# Altium footprint library TO_THD.PCBLIB: 49 footprints (part 4 of 4)
Each footprint in its own frame and in the unit in brackets; x right, y up, seen from the top. Pads: shape width x height; smd on the part's side, far side on the other; paste and mask are expansions set on the pad; w line width, h text height; cw(c..) or ccw(c..) is an arc to the next point about the centre after c.
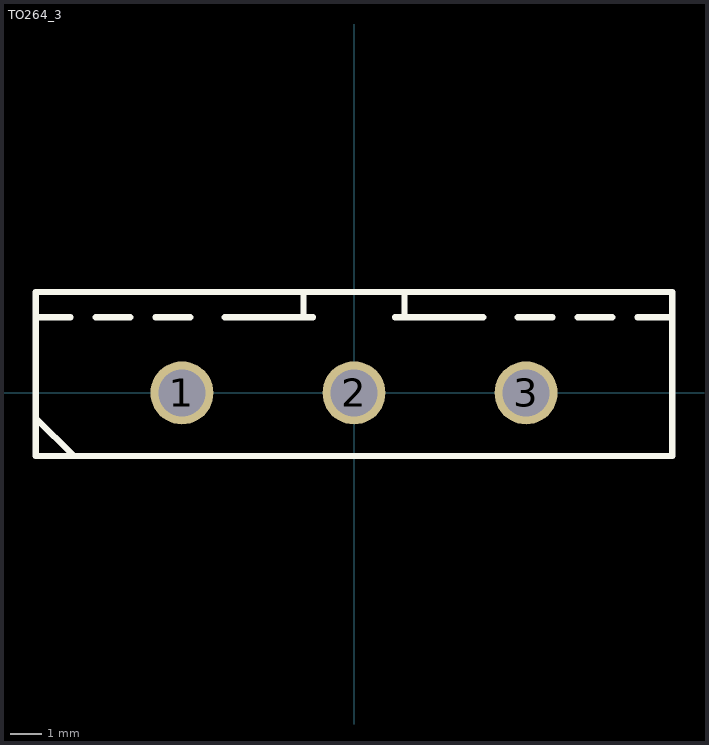
[diagram p3: the footprint, top view; thin cyan lines are the x and y axes]

## TO264_3 [mm] "TO-264, pitch: 5.5mm 20.2x26x5mm"
pads (3):
  round 2 / inner round 2 / far side oval 2.4x3.6 hole 1.5: 1(-5.461,0) 2(0,0) 3(5.461,0)
TopOverlay:
  lines w0.2: -10.1,-0.8 -8.9,-2 ; -10.1,2.4 -9,2.4 ; -8.2,2.4 -7.1,2.4 ; -6.3,2.4 -5.2,2.4 ; -4.1,2.4 -1.3,2.4 ; -1.6,2.4 -1.6,3.2 ; 1.3,2.4 4.1,2.4 ; 1.6,2.4 1.6,3.2 ; 5.2,2.4 6.3,2.4 ; 7.1,2.4 8.2,2.4 ; 9,2.4 10.1,2.4 ; -10.1,-2 10.1,-2 10.1,3.2 -10.1,3.2 -10.1,-2
3D body "TO-264-3-VM.stp": height 28.5, standoff -16.91, extent -10,-1.9 10,3.101